# Altium footprint library Empreintes_LIB_atelier1A.PcbLib: 79 footprints (part 4 of 5)
Each footprint in its own frame and in the unit in brackets; x right, y up, seen from the top. Pads: shape width x height; smd on the part's side, far side on the other; paste and mask are expansions set on the pad; w line width, h text height; cw(c..) or ccw(c..) is an arc to the next point about the centre after c.
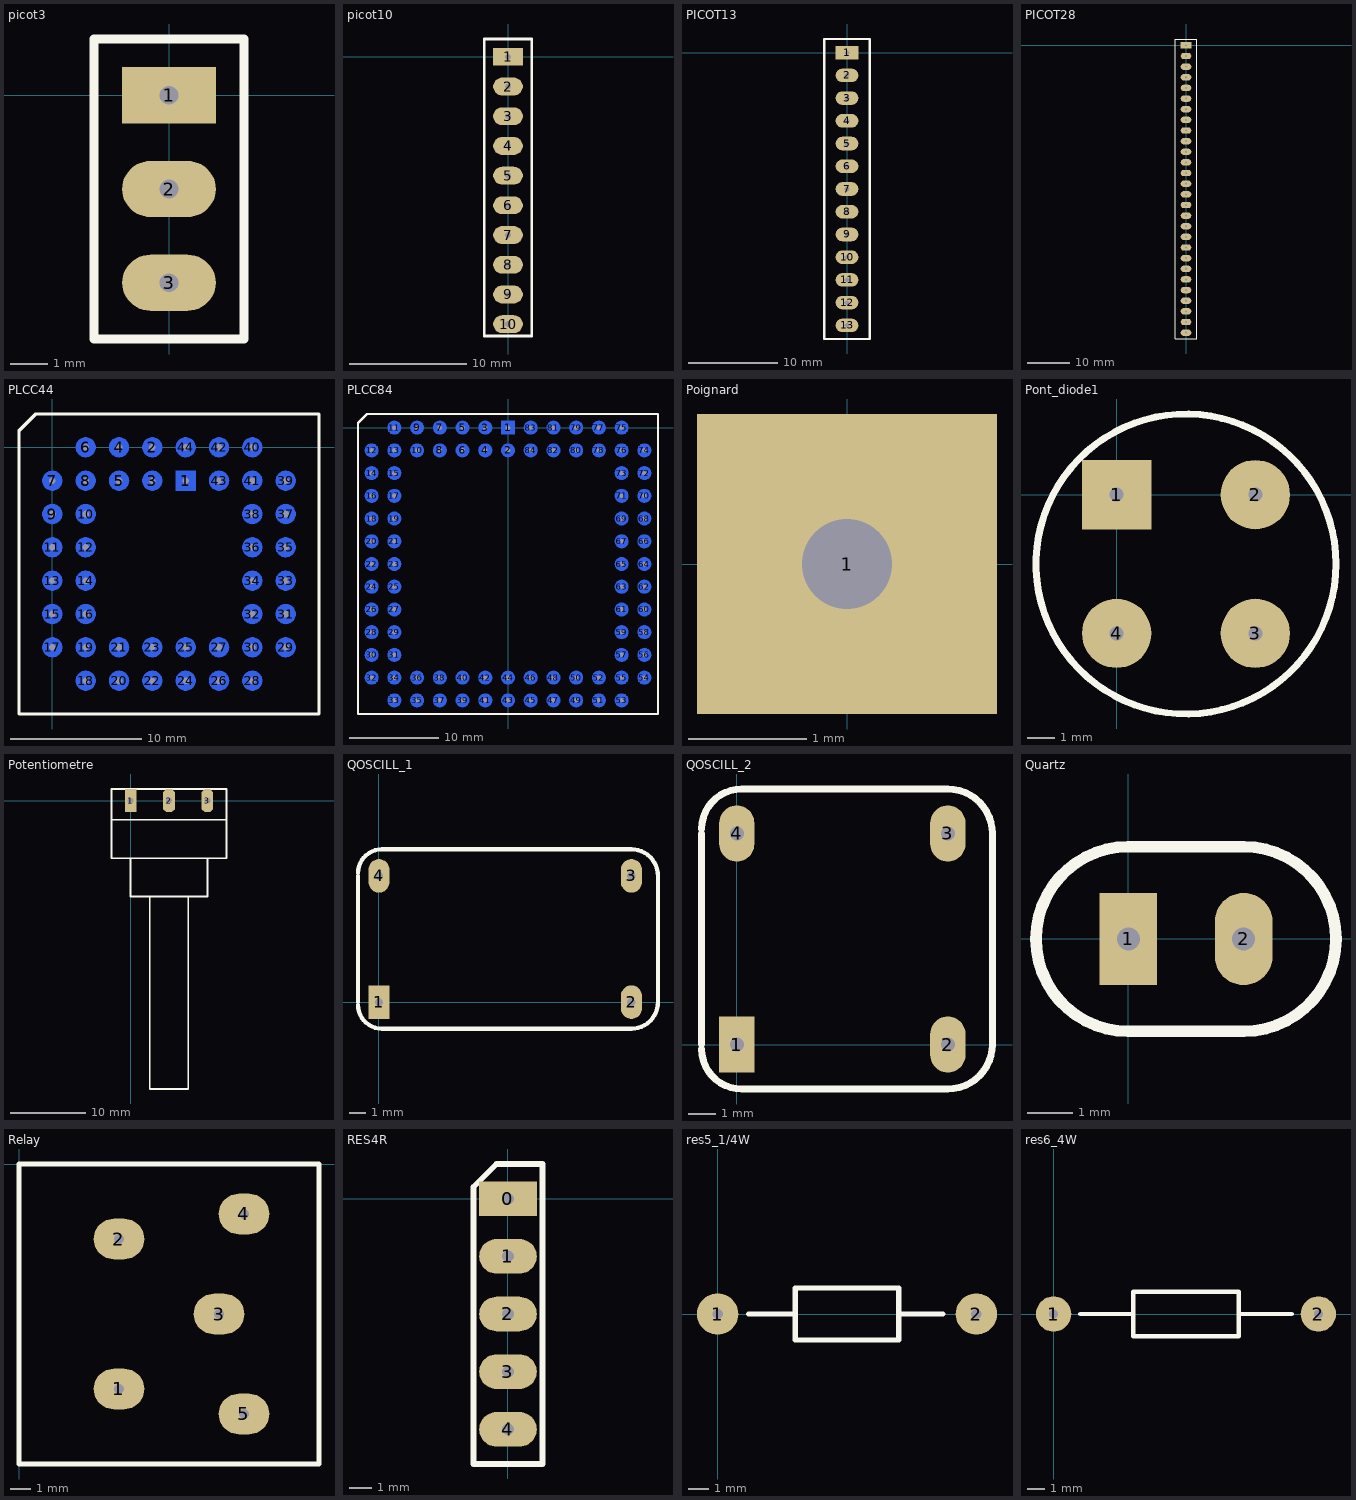
[diagram p3: the footprints below, top view; thin cyan lines are the x and y axes]

## picot3 [mil]
pads (3):
  rect 100x60 hole 20: 1(0,0)
  oval 100x60 hole 20: 2(0,-100) 3(0,-200)
TopOverlay:
  lines w10: 20,-260 80,-260 80,40 80,60 -80,60 -80,40 -80,-260 50,-260

## picot10 [mil]
pads (10):
  rect 100x60 hole 20: 1(0,0)
  oval 100x60 hole 20: 2(0,-100) 3(0,-200) 4(0,-300) 5(0,-400) 6(0,-500) 7(0,-600) 8(0,-700) 9(0,-800) 10(0,-900)
TopOverlay:
  lines w10: -80,-940 80,-940 80,60 -80,60 -80,-940

## PICOT13 [mil]
pads (13):
  rect 100x60 hole 20: 1(0,0)
  oval 100x60 hole 20: 2(0,-100) 3(0,-200) 4(0,-300) 5(0,-400) 6(0,-500) 7(0,-600) 8(0,-700) 9(0,-800) 10(0,-900) 11(0,-1000) 12(0,-1100) 13(0,-1200)
TopOverlay:
  lines w10: -100,20 -100,60 100,60 100,20 ; -100,40 -100,-1250 -100,-1260 100,-1260 100,30

## PICOT28 [mil]
pads (28):
  rect 100x60 hole 20: 1(0,0)
  oval 100x60 hole 20: 2(0,-100) 3(0,-200) 4(0,-300) 5(0,-400) 6(0,-500) 7(0,-600) 8(0,-700) 9(0,-800) 10(0,-900) 11(0,-1000) 12(0,-1100) 13(0,-1200) 14(0,-1300) 15(0,-1400) 16(0,-1500) 17(0,-1600) 18(0,-1700) 19(0,-1800) 20(0,-1900) 21(0,-2000) 22(0,-2100) 23(0,-2200) 24(0,-2300) 25(0,-2400) 26(0,-2500) 27(0,-2600) 28(0,-2700)
TopOverlay:
  lines w10: -100,20 -100,60 100,60 100,20 ; -100,40 -100,-2760 100,-2760 100,40

## PLCC44 [mil]
pads (44):
  rect 60x60 on Bottom hole 20: 1(400,-100)
  round 60 on Bottom hole 20: 2(300,0) 3(300,-100) 4(200,0) 5(200,-100) 6(100,0) 7(0,-100) 8(100,-100) 9(0,-200) 10(100,-200) 11(0,-300) 12(100,-300) 13(0,-400) 14(100,-400) 15(0,-500) 16(100,-500) 17(0,-600) 18(100,-700) 19(100,-600) 20(200,-700) 21(200,-600) 22(300,-700) 23(300,-600) 24(400,-700) 25(400,-600) 26(500,-700) 27(500,-600) 28(600,-700) 29(700,-600) 30(600,-600) 31(700,-500) 32(600,-500) 33(700,-400) 34(600,-400) 35(700,-300) 36(600,-300) 37(700,-200) 38(600,-200) 39(700,-100) 40(600,0) 41(600,-100) 42(500,0) 43(500,-100) 44(400,0)
TopOverlay:
  lines w10: -100,-800 800,-800 800,100 -50,100 -100,50 -100,-800

## PLCC84 [mil]
pads (84):
  rect 60x60 on Bottom hole 20: 1(0,0)
  round 60 on Bottom hole 20: 2(0,-100) 3(-100,0) 4(-100,-100) 5(-200,0) 6(-200,-100) 7(-300,0) 8(-300,-100) 9(-400,0) 10(-400,-100) 11(-500,0) 12(-600,-100) 13(-500,-100) 14(-600,-200) 15(-500,-200) 16(-600,-300) 17(-500,-300) 18(-600,-400) 19(-500,-400) 20(-600,-500) 21(-500,-500) 22(-600,-600) 23(-500,-600) 24(-600,-700) 25(-500,-700) 26(-600,-800) 27(-500,-800) 28(-600,-900) 29(-500,-900) 30(-600,-1000) 31(-500,-1000) 32(-600,-1100) 33(-500,-1200) 34(-500,-1100) 35(-400,-1200) 36(-400,-1100) 37(-300,-1200) 38(-300,-1100) 39(-200,-1200) 40(-200,-1100) 41(-100,-1200) 42(-100,-1100) 43(0,-1200) 44(0,-1100) 45(100,-1200) 46(100,-1100) 47(200,-1200) 48(200,-1100) 49(300,-1200) 50(300,-1100) 51(400,-1200) 52(400,-1100) 53(500,-1200) 54(600,-1100) 55(500,-1100) 56(600,-1000) 57(500,-1000) 58(600,-900) 59(500,-900) 60(600,-800) 61(500,-800) 62(600,-700) 63(500,-700) 64(600,-600) 65(500,-600) 66(600,-500) 67(500,-500) 68(600,-400) 69(500,-400) 70(600,-300) 71(500,-300) 72(600,-200) 73(500,-200) 74(600,-100) 75(500,0) 76(500,-100) 77(400,0) 78(400,-100) 79(300,0) 80(300,-100) 81(200,0) 82(200,-100) 83(100,0) 84(100,-100)
TopOverlay:
  lines w10: -660,-1260 -660,0 -660,20 -620,60 -540,60 660,60 660,-1240 660,-1260 -660,-1260

## Poignard [mil]
pads (1):
  rect 100x100 hole 30: 1(0,0)

## Pont_diode1 [mil]
pads (4):
  rect 100x100 hole 20: 1(0,0)
  round 100 hole 20: 2(200,0) 3(200,-200) 4(0,-200)
TopOverlay:
  circle w10: c100,-100 r216.33
MultiLayer:
  text "-" at -160,-40 h80
  text "+" at 260,-320 h80

## Potentiometre [mil]
pads (3):
  rect 60x120 hole 30: 1(0,0)
  oct 60x120 hole 30: 2(200,0) 3(400,0)
TopOverlay:
  lines w10: 0,-300 0,-500 400,-500 400,-300 ; 100,-500 100,-1500 300,-1500 300,-500 ; -100,-100 500,-100 ; -100,-100 -100,60 500,60 500,-100 ; -100,-100 -100,-300 500,-300 500,-100

## QOSCILL_1 [mil]
pads (4):
  rect 50x80 hole 20: 1(0,0)
  oval 50x80 hole 20: 2(600,0) 3(600,300) 4(0,300)
TopOverlay:
  lines w10: -49.89,-6.68 ccw(c6.68,-6.68) 6.68,-63.25 600,-63.25 ccw(c600,0) 663.25,0 663.25,300 ccw(c600,300) 600,363.25 6.68,363.25 ccw(c6.68,306.68) -49.89,306.68 ; -49.89,0 -49.89,300

## QOSCILL_2 [mil]
pads (4):
  rect 50x80 hole 20: 1(0,0)
  oval 50x80 hole 20: 2(300,0) 3(300,300) 4(0,300)
TopOverlay:
  lines w10: -49.89,-6.68 ccw(c6.68,-6.68) 6.68,-63.25 300,-63.25 ccw(c300,0) 363.25,0 363.25,300 ccw(c300,300) 300,363.25 6.68,363.25 ccw(c6.68,306.68) -49.89,306.68 ; -49.89,0 -49.89,300

## Quartz [mil]
pads (2):
  rect 50x80 hole 20: 1(0,0)
  oval 50x80 hole 20: 2(100,0)
TopOverlay:
  lines w10: 0,-80 cw(c0,0) 0,80 100,80 cw(c100,0) 100,-80 0,-80

## Relay [mil]
pads (5):
  oval 100x80 hole 20: 1(196.85,-442.91) 2(196.85,-147.64) 3(393.7,-295.28) 4(442.91,-98.42) 5(442.91,-492.13)
TopOverlay:
  lines w10: 0,-590.55 590.55,-590.55 590.55,0 0,0 0,-590.55

## RES4R [mil]
pads (5):
  rect 100x60 hole 20: 0(0,0)
  oval 100x60 hole 20: 1(0,-100) 2(0,-200) 3(0,-300) 4(0,-400)
TopOverlay:
  lines w10: -60,-460 60,-460 60,60 -20,60 -60,20 -60,-460

## res5_1/4W [mil]
pads (2):
  round 80 hole 20: 1(0,0) 2(500,0)
TopOverlay:
  lines w10: 60,0 145,0 ; 350,0 435,0 ; 150,-50 180,-50 350,-50 350,50 180,50 150,50 150,0 150,-50

## res6_4W [mil]
pads (2):
  round 80 hole 20: 1(0,0) 2(600,0)
TopOverlay:
  lines w10: 60,0 180,0 ; 420,0 540,0 ; 180,-50 420,-50 420,50 180,50 180,-50